# EAGLE library part CAY16-221J4LF (library Common-Parts-Library-Eagle)
Res Thick Film Array 220 Ohm 5% 200ppm/C ISOL Molded 8-Pin 1206(4 X 0603) Convex SMD Paper T/R
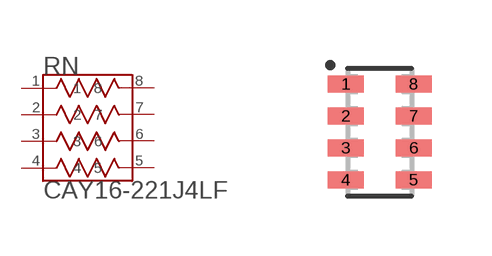
[diagram p1: symbol with the pads of RESCAXE80P320X160-8N; footprint RESCAXE80P320X160-8N]

Designator prefix RN

## CAY16-221J4LF (MANUFACTURER: BOURNS)  [RESCAXE80P320X160-8N]
1  1  pas
2  2  pas
3  3  pas
4  4  pas
5  5  pas
6  6  pas
7  7  pas
8  8  pas

## Footprint RESCAXE80P320X160-8N (pad centres in mm)
BOURNS RESISTOR NETWORK
smd 0.9 x 0.425: 1 -0.85,1.2; 2 -0.85,0.4; 3 -0.85,-0.4; 4 -0.85,-1.2; 5 0.85,-1.2; 6 0.85,-0.4; 7 0.85,0.4; 8 0.85,1.2